# Altium schematic symbol library Sound.SchLib: 1 symbol
Pins are listed as number, name and electrical type; pins without a type are passive.

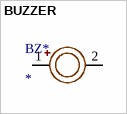
[diagram p0: symbol BUZZER]

## BUZZER
designator BZ*
footprint BUZZER
pins: 1, 2